# Altium schematic symbol library TOP252EN.Schlib: 1 symbol
Pins are listed as number, name and electrical type; pins without a type are passive.

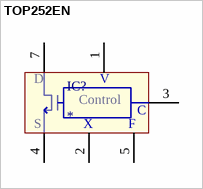
[diagram p0: symbol TOP252EN]

## TOP252EN
designator IC?
Offline switcher IC
pins: 1 V, 2 X, 3 C, 4 S, 5 F, 7 D
text: Control